# Altium footprint library ST.PcbLib: 22 footprints (part 2 of 2)
Each footprint in its own frame and in the unit in brackets; x right, y up, seen from the top. Pads: shape width x height; smd on the part's side, far side on the other; paste and mask are expansions set on the pad; w line width, h text height; cw(c..) or ccw(c..) is an arc to the next point about the centre after c.
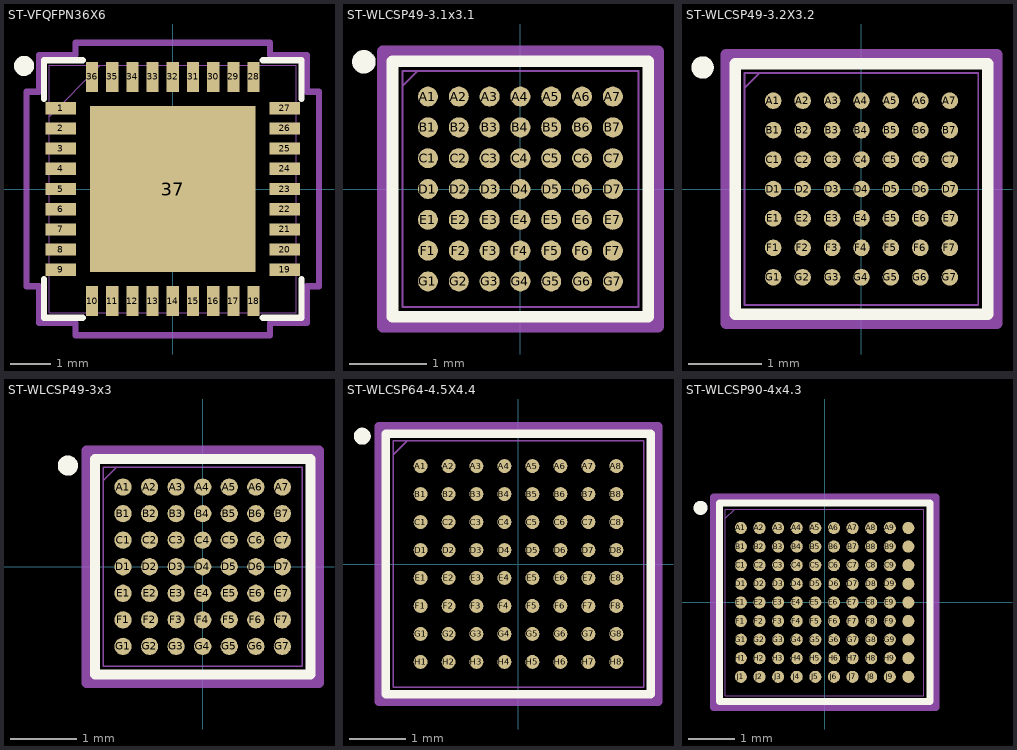
[diagram p1: the footprints below, top view; thin cyan lines are the x and y axes]

## ST-VFQFPN36X6 [mm] "意法半导体的VFQFPN36 6x6mm推荐封装"
pads (37):
  rect 0.75x0.3 smd mask+0.05: 1(-2.775,2) 2(-2.775,1.5) 3(-2.775,1) 4(-2.775,0.5) 5(-2.775,0) 6(-2.775,-0.5) 7(-2.775,-1) 8(-2.775,-1.5) 9(-2.775,-2) 19(2.775,-2) 20(2.775,-1.5) 21(2.775,-1) 22(2.775,-0.5) 23(2.775,0) 24(2.775,0.5) 25(2.775,1) 26(2.775,1.5) 27(2.775,2)
  rect 0.3x0.75 smd mask+0.05: 10(-2,-2.775) 11(-1.5,-2.775) 12(-1,-2.775) 13(-0.5,-2.775) 14(0,-2.775) 15(0.5,-2.775) 16(1,-2.775) 17(1.5,-2.775) 18(2,-2.775) 28(2,2.775) 29(1.5,2.775) 30(1,2.775) 31(0.5,2.775) 32(0,2.775) 33(-0.5,2.775) 34(-1,2.775) 35(-1.5,2.775) 36(-2,2.775)
  rect 4.1x4.1 smd paste-2.108 mask+0.05: 37(0,0)
Top Overlay:
  circle w0.25: c-3.683,3.048 r0.125
  lines w0.152: -3.188,-2.229 -3.188,-3.188 -2.229,-3.188 ; -3.188,2.229 -3.188,3.188 -2.229,3.188 ; 2.229,-3.188 3.188,-3.188 3.188,-2.229 ; 2.229,3.188 3.188,3.188 3.188,2.229
Top Paste:
  region: -0.807,2.021 -2.021,2.021 -2.021,0.807 -0.807,0.807
  region: -0.807,0.607 -2.021,0.607 -2.021,-0.607 -0.807,-0.607
  region: -0.807,-0.807 -2.021,-0.807 -2.021,-2.021 -0.807,-2.021
  region: 0.607,2.021 -0.607,2.021 -0.607,0.807 0.607,0.807
  region: 0.607,0.607 -0.607,0.607 -0.607,-0.607 0.607,-0.607
  region: 0.607,-0.807 -0.607,-0.807 -0.607,-2.021 0.607,-2.021
  region: 2.021,2.021 0.807,2.021 0.807,0.807 2.021,0.807
  region: 2.021,0.607 0.807,0.607 0.807,-0.607 2.021,-0.607
  region: 2.021,-0.807 0.807,-0.807 0.807,-2.021 2.021,-2.021
Mechanical 13:
  lines w0.025: -3.061,1.791 -1.791,3.061 ; -3.061,-3.061 3.061,-3.061 3.061,3.061 -3.061,3.061 -3.061,-3.061
Mechanical 15:
  lines w0.152: -3.619,-2.406 -3.315,-2.406 -3.315,-3.315 -2.406,-3.315 -2.406,-3.619 2.406,-3.619 2.406,-3.315 3.315,-3.315 3.315,-2.406 3.619,-2.406 3.619,2.406 3.315,2.406 3.315,3.315 2.406,3.315 2.406,3.619 -2.406,3.619 -2.406,3.315 -3.315,3.315 -3.315,2.406 -3.619,2.406 -3.619,-2.406
3D body "VFQFPN-36.step": height 0.94, standoff 0, extent -3.061,-3.061 3.061,3.061

## ST-WLCSP49-3.1x3.1 [mm]
pads (49):
  round 0.26 smd mask+0.02: A1(-1.2,1.2) A2(-0.8,1.2) A3(-0.4,1.2) A4(0,1.2) A5(0.4,1.2) A6(0.8,1.2) A7(1.2,1.2) B1(-1.2,0.8) B2(-0.8,0.8) B3(-0.4,0.8) B4(0,0.8) B5(0.4,0.8) B6(0.8,0.8) B7(1.2,0.8) C1(-1.2,0.4) C2(-0.8,0.4) C3(-0.4,0.4) C4(0,0.4) C5(0.4,0.4) C6(0.8,0.4) C7(1.2,0.4) D1(-1.2,0) D2(-0.8,0) D3(-0.4,0) D4(0,0) D5(0.4,0) D6(0.8,0) D7(1.2,0) E1(-1.2,-0.4) E2(-0.8,-0.4) E3(-0.4,-0.4) E4(0,-0.4) E5(0.4,-0.4) E6(0.8,-0.4) E7(1.2,-0.4) F1(-1.2,-0.8) F2(-0.8,-0.8) F3(-0.4,-0.8) F4(0,-0.8) F5(0.4,-0.8) F6(0.8,-0.8) F7(1.2,-0.8) G1(-1.2,-1.2) G2(-0.8,-1.2) G3(-0.4,-1.2) G4(0,-1.2) G5(0.4,-1.2) G6(0.8,-1.2) G7(1.2,-1.2)
Top Overlay:
  circle w0.152: c-2.032,1.651 r0.076
  lines w0.152: -1.659,-1.659 1.659,-1.659 1.659,1.659 -1.659,1.659 -1.659,-1.659
Bottom Overlay:
Mechanical 13:
  lines w0.025: -1.532,1.332 -1.332,1.532 ; -1.532,-1.532 1.532,-1.532 1.532,1.532 -1.532,1.532 -1.532,-1.532
Mechanical 15:
  lines w0.152: -1.786,-1.786 -1.786,1.786 1.786,1.786 1.786,-1.786 -1.786,-1.786
3D body "WLCSP49-3.1x3.1.step": height 0.59, standoff 0, extent -1.532,-1.532 1.532,1.532

## ST-WLCSP49-3.2X3.2 [mm] "意法半导体的WLCSP49推荐封装 3.141x3.127mm"
pads (49):
  round 0.225 smd paste+0.012 mask+0.032: A1(-1.2,1.2) A2(-0.8,1.2) A3(-0.4,1.2) A4(0,1.2) A5(0.4,1.2) A6(0.8,1.2) A7(1.2,1.2) B1(-1.2,0.8) B2(-0.8,0.8) B3(-0.4,0.8) B4(0,0.8) B5(0.4,0.8) B6(0.8,0.8) B7(1.2,0.8) C1(-1.2,0.4) C2(-0.8,0.4) C3(-0.4,0.4) C4(0,0.4) C5(0.4,0.4) C6(0.8,0.4) C7(1.2,0.4) D1(-1.2,0) D2(-0.8,0) D3(-0.4,0) D4(0,0) D5(0.4,0) D6(0.8,0) D7(1.2,0) E1(-1.2,-0.4) E2(-0.8,-0.4) E3(-0.4,-0.4) E4(0,-0.4) E5(0.4,-0.4) E6(0.8,-0.4) E7(1.2,-0.4) F1(-1.2,-0.8) F2(-0.8,-0.8) F3(-0.4,-0.8) F4(0,-0.8) F5(0.4,-0.8) F6(0.8,-0.8) F7(1.2,-0.8) G1(-1.2,-1.2) G2(-0.8,-1.2) G3(-0.4,-1.2) G4(0,-1.2) G5(0.4,-1.2) G6(0.8,-1.2) G7(1.2,-1.2)
Top Overlay:
  circle w0.152: c-2.159,1.651 r0.076
  lines w0.152: -1.714,-1.702 -1.714,1.702 1.714,1.702 1.714,-1.702 -1.714,-1.702
Mechanical 13:
  lines w0.025: -1.587,1.375 -1.388,1.575 ; -1.587,-1.575 -1.587,1.575 1.587,1.575 1.587,-1.575 -1.587,-1.575
Mechanical 15:
  lines w0.152: -1.841,-1.829 1.841,-1.829 1.841,1.829 -1.841,1.829 -1.841,-1.829
3D body "WLCSP49.stp": height 0.59, standoff 0, extent -1.57,-1.563 1.57,1.563

## ST-WLCSP49-3x3 [mm] "意法半导体的WLCSP49推荐封装 2.965x2.965mm P 0.4 0.33和0.6厚度通用  3.1x3.1 P0.4 厚度0.6通用"
pads (49):
  round 0.26 smd mask+0.02: A1(-1.2,1.2) A2(-0.8,1.2) A3(-0.4,1.2) A4(0,1.2) A5(0.4,1.2) A6(0.8,1.2) A7(1.2,1.2) B1(-1.2,0.8) B2(-0.8,0.8) B3(-0.4,0.8) B4(0,0.8) B5(0.4,0.8) B6(0.8,0.8) B7(1.2,0.8) C1(-1.2,0.4) C2(-0.8,0.4) C3(-0.4,0.4) C4(0,0.4) C5(0.4,0.4) C6(0.8,0.4) C7(1.2,0.4) D1(-1.2,0) D2(-0.8,0) D3(-0.4,0) D4(0,0) D5(0.4,0) D6(0.8,0) D7(1.2,0) E1(-1.2,-0.4) E2(-0.8,-0.4) E3(-0.4,-0.4) E4(0,-0.4) E5(0.4,-0.4) E6(0.8,-0.4) E7(1.2,-0.4) F1(-1.2,-0.8) F2(-0.8,-0.8) F3(-0.4,-0.8) F4(0,-0.8) F5(0.4,-0.8) F6(0.8,-0.8) F7(1.2,-0.8) G1(-1.2,-1.2) G2(-0.8,-1.2) G3(-0.4,-1.2) G4(0,-1.2) G5(0.4,-1.2) G6(0.8,-1.2) G7(1.2,-1.2)
Top Overlay:
  circle w0.152: c-2.032,1.524 r0.076
  lines w0.152: -1.626,-1.626 -1.626,1.626 1.626,1.626 1.626,-1.626 -1.626,-1.626
Mechanical 13:
  lines w0.025: -1.499,1.299 -1.299,1.499 ; -1.499,-1.499 1.499,-1.499 1.499,1.499 -1.499,1.499 -1.499,-1.499
Mechanical 15:
  lines w0.152: -1.753,-1.753 -1.753,1.753 1.753,1.753 1.753,-1.753 -1.753,-1.753
3D body "WLCSP49-3x3.step": height 0.59, standoff 0, extent -1.499,-1.499 1.499,1.499

## ST-WLCSP64-4.5X4.4 [mm] "意法半导体 WLCSP64 4.5x4.4 P 0.5 推荐封装"
pads (64):
  round 0.25 smd paste+0.035 mask+0.025: A1(-1.751,1.751) A2(-1.251,1.751) A3(-0.751,1.751) A4(-0.25,1.751) A5(0.25,1.751) A6(0.751,1.751) A7(1.251,1.751) A8(1.751,1.751) B1(-1.751,1.251) B2(-1.251,1.251) B3(-0.751,1.251) B4(-0.25,1.251) B5(0.25,1.251) B6(0.751,1.251) B7(1.251,1.251) B8(1.751,1.251) C1(-1.751,0.751) C2(-1.251,0.751) C3(-0.751,0.751) C4(-0.25,0.751) C5(0.25,0.751) C6(0.751,0.751) C7(1.251,0.751) C8(1.751,0.751) D1(-1.751,0.25) D2(-1.251,0.25) D3(-0.751,0.25) D4(-0.25,0.25) D5(0.25,0.25) D6(0.751,0.25) D7(1.251,0.25) D8(1.751,0.25) E1(-1.751,-0.25) E2(-1.251,-0.25) E3(-0.751,-0.25) E4(-0.25,-0.25) E5(0.25,-0.25) E6(0.751,-0.25) E7(1.251,-0.25) E8(1.751,-0.25) F1(-1.751,-0.751) F2(-1.251,-0.751) F3(-0.751,-0.751) F4(-0.25,-0.751) F5(0.25,-0.751) F6(0.751,-0.751) F7(1.251,-0.751) F8(1.751,-0.751) G1(-1.751,-1.251) G2(-1.251,-1.251) G3(-0.751,-1.251) G4(-0.25,-1.251) G5(0.25,-1.251) G6(0.751,-1.251) G7(1.251,-1.251) G8(1.751,-1.251) H1(-1.751,-1.751) H2(-1.251,-1.751) H3(-0.751,-1.751) H4(-0.25,-1.751) H5(0.25,-1.751) H6(0.751,-1.751) H7(1.251,-1.751) H8(1.751,-1.751)
Top Overlay:
  circle w0.152: c-2.794,2.286 r0.076
  lines w0.152: -2.37,-2.334 2.37,-2.334 2.37,2.334 -2.37,2.334 -2.37,-2.334
Mechanical 13:
  lines w0.025: -2.243,1.957 -1.993,2.207 ; -2.243,-2.207 2.243,-2.207 2.243,2.207 -2.243,2.207 -2.243,-2.207
Mechanical 15:
  lines w0.152: -2.497,-2.461 -2.497,2.461 2.497,2.461 2.497,-2.461 -2.497,-2.461
3D body "WLCSP64.step": height 0.64, standoff 0, extent -2.243,-2.207 2.243,2.207

## ST-WLCSP90-4x4.3 [mm] "意法半导体的WLCSP90推荐封装 4.223 x 3.969mm P 0.4"
pads (90):
  round 0.26 smd mask+0.02: A1(-1.8,1.6) A2(-1.4,1.6) A3(-1,1.6) A4(-0.6,1.6) A5(-0.2,1.6) A6(0.2,1.6) A7(0.6,1.6) A8(1,1.6) A9(1.4,1.6) A10(1.8,1.6) B1(-1.8,1.2) B2(-1.4,1.2) B3(-1,1.2) B4(-0.6,1.2) B5(-0.2,1.2) B6(0.2,1.2) B7(0.6,1.2) B8(1,1.2) B9(1.4,1.2) B10(1.8,1.2) C1(-1.8,0.8) C2(-1.4,0.8) C3(-1,0.8) C4(-0.6,0.8) C5(-0.2,0.8) C6(0.2,0.8) C7(0.6,0.8) C8(1,0.8) C9(1.4,0.8) C10(1.8,0.8) D1(-1.8,0.4) D2(-1.4,0.4) D3(-1,0.4) D4(-0.6,0.4) D5(-0.2,0.4) D6(0.2,0.4) D7(0.6,0.4) D8(1,0.4) D9(1.4,0.4) D10(1.8,0.4) E1(-1.8,0) E2(-1.4,0) E3(-1,0) E4(-0.6,0) E5(-0.2,0) E6(0.2,0) E7(0.6,0) E8(1,0) E9(1.4,0) E10(1.8,0) F1(-1.8,-0.4) F2(-1.4,-0.4) F3(-1,-0.4) F4(-0.6,-0.4) F5(-0.2,-0.4) F6(0.2,-0.4) F7(0.6,-0.4) F8(1,-0.4) F9(1.4,-0.4) F10(1.8,-0.4) G1(-1.8,-0.8) G2(-1.4,-0.8) G3(-1,-0.8) G4(-0.6,-0.8) G5(-0.2,-0.8) G6(0.2,-0.8) G7(0.6,-0.8) G8(1,-0.8) G9(1.4,-0.8) G10(1.8,-0.8) H1(-1.8,-1.2) H2(-1.4,-1.2) H3(-1,-1.2) H4(-0.6,-1.2) H5(-0.2,-1.2) H6(0.2,-1.2) H7(0.6,-1.2) H8(1,-1.2) H9(1.4,-1.2) H10(1.8,-1.2) J1(-1.8,-1.6) J2(-1.4,-1.6) J3(-1,-1.6) J4(-0.6,-1.6) J5(-0.2,-1.6) J6(0.2,-1.6) J7(0.6,-1.6) J8(1,-1.6) J9(1.4,-1.6) J10(1.8,-1.6)
Top Overlay:
  circle w0.152: c-2.667,2.032 r0.076
  lines w0.152: -2.261,-2.134 -2.261,2.134 2.261,2.134 2.261,-2.134 -2.261,-2.134
Mechanical 13:
  lines w0.025: -2.134,1.807 -1.934,2.007 ; -2.134,-2.007 -2.134,2.007 2.134,2.007 2.134,-2.007 -2.134,-2.007
Mechanical 15:
  lines w0.152: -2.388,-2.261 2.388,-2.261 2.388,2.261 -2.388,2.261 -2.388,-2.261
3D body "WLCSP90-4x4.3.step": height 0.61, standoff 0, extent -2.134,-2.007 2.134,2.007